# EAGLE library part TLV2375 (library TLV237x)
Quad RRIO CMOS Op-Amp with shutdown
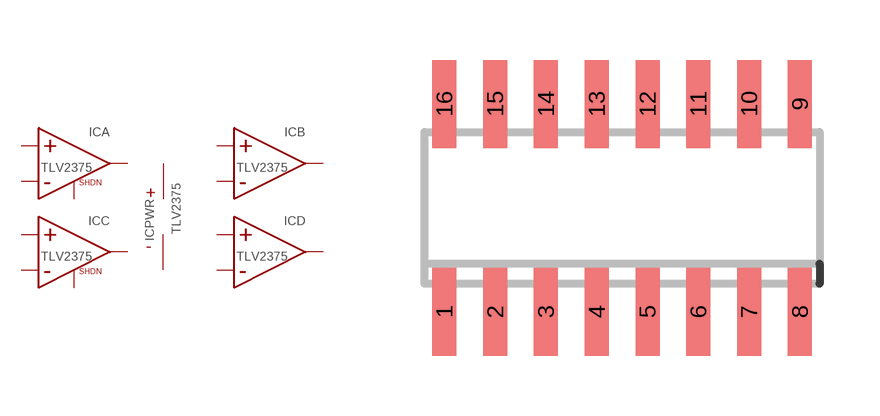
[diagram p0: symbol with the pads of SOIC16N; footprint SOIC16N]

Designator prefix IC; gates A=OPAMP_SHDN B=OPAMP C=OPAMP_SHDN D=OPAMP PWR=PWR

## TLV2375  [SOIC16N]
1  A:OUT  out
2  A:INV  in
3  A:NINV  in
4  PWR:V+  pwr
5  B:NINV  in
6  B:INV  in
7  B:OUT  out
8  A:SHDN  in
9  C:SHDN  in
10  C:OUT  out
11  C:INV  in
12  C:NINV  in
13  PWR:V-  pwr
14  D:NINV  in
15  D:INV  in
16  D:OUT  out

## Footprint SOIC16N (pad centres in mm)
SMALL OUTLINE INTEGRATED CIRCUIT
smd 0.6 x 2.2: 1 -4.445,-2.6; 2 -3.175,-2.6; 3 -1.905,-2.6; 4 -0.635,-2.6; 5 0.635,-2.6; 6 1.905,-2.6; 7 3.175,-2.6; 8 4.445,-2.6; 9 4.445,2.6; 10 3.175,2.6; 11 1.905,2.6; 12 0.635,2.6; 13 -0.635,2.6; 14 -1.905,2.6; 15 -3.175,2.6; 16 -4.445,2.6